# Altium schematic symbol library MX25L12833FZNI-10G.SchLib: 2 symbols
Pins are listed as number, name and electrical type; pins without a type are passive.

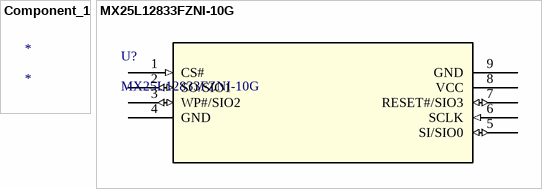
[diagram p0: symbols Component_1 to MX25L12833FZNI-10G]

## Component_1
designator *

## MX25L12833FZNI-10G
designator U?
No Description Available; Mfr_Name: Macronix; Copyright: Copyright (C) 2023 Ultra Librarian. All rights reserved.; Manufacturer_Part_Number: MX25L12833FZNI-10G; RefDes: RefDes; Type: DEV
footprint WSON8_6X5X0p8_MAC
pins: 1 CS# (in), 2 SO/SIO1 (io), 3 WP#/SIO2 (io), 4 GND (power), 5 SI/SIO0 (io), 6 SCLK (in), 7 RESET#/SIO3 (io), 8 VCC (power), 9 GND (power)